# Altium schematic symbol library Trans,NPN,150V,1A,TO252.Schlib: 1 symbol
Pins are listed as number, name and electrical type; pins without a type are passive.

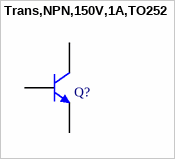
[diagram p0: symbol Trans,NPN,150V,1A,TO252]

## Trans,NPN,150V,1A,TO252
designator Q?
pins: 1 B, 2 C, 3 E